# EAGLE library part 68HC908JL16 (library MOTOROLA)
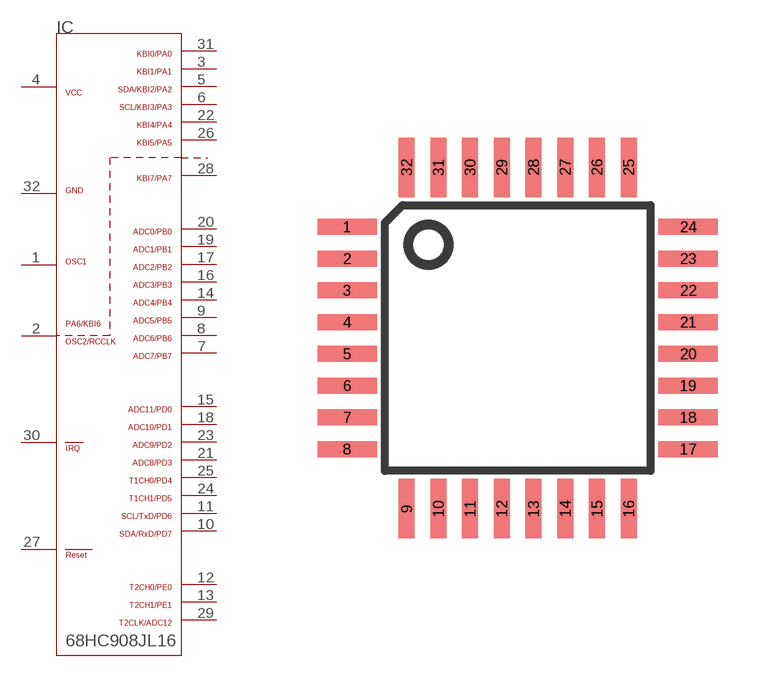
[diagram p59: symbol with the pads of LQFP32_08; footprint LQFP32_08]

Designator prefix IC

## 68HC908JL16LQFP  [LQFP32_08]
1  OSC1
2  OSC2
3  PA1
4  VCC
5  PA2
6  PA3
7  PB7
8  PB6
9  PB5
10  PD7
11  PD6
12  PE0
13  PE1
14  PB4
15  PD0
16  PB3
17  PB2
18  PD1
19  PB1
20  PB0
21  PD3
22  PA4
23  PD2
24  PD5
25  PD4
26  PA5
27  RST/
28  PA7
29  ADC12
30  IRQ/
31  PA0
32  GND

## Footprint LQFP32_08 (pad centres in mm)
LQFP32 Package, Pitchj 0,8mm
smd 1.5 x 0.4: 1 -4.3,2.8; 2 -4.3,2; 3 -4.3,1.2; 4 -4.3,0.4; 5 -4.3,-0.4; 6 -4.3,-1.2; 7 -4.3,-2; 8 -4.3,-2.8; 17 4.3,-2.8; 18 4.3,-2; 19 4.3,-1.2; 20 4.3,-0.4; 21 4.3,0.4; 22 4.3,1.2; 23 4.3,2; 24 4.3,2.8
smd 0.4 x 1.5: 9 -2.8,-4.3; 10 -2,-4.3; 11 -1.2,-4.3; 12 -0.4,-4.3; 13 0.4,-4.3; 14 1.2,-4.3; 15 2,-4.3; 16 2.8,-4.3; 25 2.8,4.3; 26 2,4.3; 27 1.2,4.3; 28 0.4,4.3; 29 -0.4,4.3; 30 -1.2,4.3; 31 -2,4.3; 32 -2.8,4.3